# Altium integrated library WS-TASU 3.5x4.7 mm SMD J-Bend side push, boss design.IntLib: 2 symbols
Pins are listed as number, name and electrical type; pins without a type are passive.

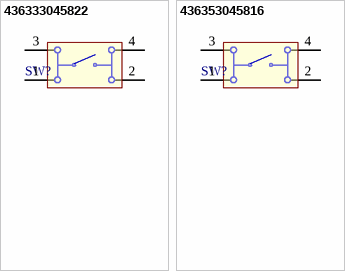
[diagram p0: symbols 436333045822 to 436353045816]

## 436333045822
designator SW?
WS-TASU J-Bend J-Bend SMD Tact Switch with boss design 4.7X3.5 mm side push; PartNumber: 436333045822; PackageReference: 436333045822; ComponentLink1Description: Manufacturer URL; ComponentLink1URL: http://www.we-online.com; ComponentLink2Description: Datasheet; ComponentLink2URL: http://katalog.we-online.de/em/datasheet/436333045822.pdf
footprint 436333045822 (4.7*3.5mm side push type, J-Bend SMD with boss design, height 1.65mm, black actuator, 220gf, T&R)
pins: 1, 2, 3, 4

## 436353045816
designator SW?
WS-TASU J-Bend J-Bend SMD Tact Switch with boss design 4.7X3.5 mm side push; PartNumber: 436353045816; PackageReference: 436353045816; ComponentLink1Description: Manufacturer URL; ComponentLink1URL: http://www.we-online.com; ComponentLink2Description: Datasheet; ComponentLink2URL: http://katalog.we-online.de/em/datasheet/436353045816.pdf
footprint 436353045816 (4.7*3.5mm side push type, J-Bend SMD with boss design,  height 1.65mm, white actuator, 160gf, T&R)
pins: 1, 2, 3, 4